# Altium schematic symbol library FQD20N06TM.Schlib: 1 symbol
Pins are listed as number, name and electrical type; pins without a type are passive.

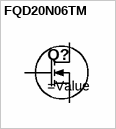
[diagram p0: symbol FQD20N06TM]

## FQD20N06TM
designator Q?
MOSFET N-CH 60V 16.8A DPAK
pins: 1 G, 2 S, 3 D